# Altium footprint library PCB1.PcbLib: 18 footprints (part 2 of 2)
Each footprint in its own frame and in the unit in brackets; x right, y up, seen from the top. Pads: shape width x height; smd on the part's side, far side on the other; paste and mask are expansions set on the pad; w line width, h text height; cw(c..) or ccw(c..) is an arc to the next point about the centre after c.
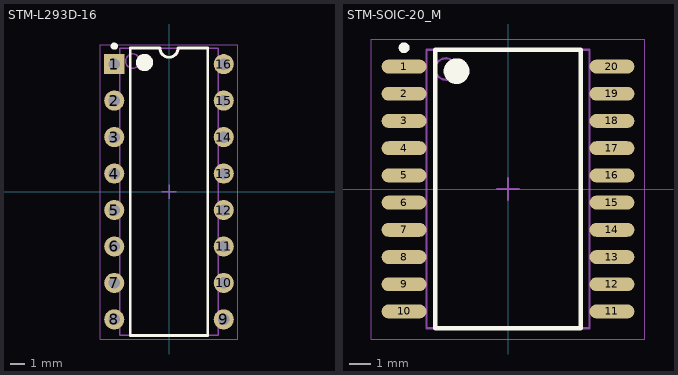
[diagram p1: the footprints below, top view; thin cyan lines are the x and y axes]

## STM-L293D-16 [mm] "DIP, 16-Leads, Body 20x6.85mm, Pitch 2.54mm"
height 5.1
pads (16):
  rect 1.4x1.4 hole 0.8: 1(-3.81,8.89)
  round 1.4 hole 0.8: 2(-3.81,6.35) 3(-3.81,3.81) 4(-3.81,1.27) 5(-3.81,-1.27) 6(-3.81,-3.81) 7(-3.81,-6.35) 8(-3.81,-8.89) 9(3.81,-8.89) 10(3.81,-6.35) 11(3.81,-3.81) 12(3.81,-1.27) 13(3.81,1.27) 14(3.81,3.81) 15(3.81,6.35) 16(3.81,8.89)
Top Overlay:
  circle w0.25: c-3.81,10.14 r0.125
  circle w0.6: c-1.7,9 r0.3
  lines w0.2: -2.7,-10 -2.7,10 -0.635,10 ccw(c0,10) 0.635,10 2.7,10 2.7,-10 -2.7,-10
Top 3D Body:
  circle w0.1: c-2.525,9.1 r0.5
  lines w0.1: -3.425,-10 -3.425,10 3.425,10 3.425,-10 -3.425,-10
Top Courtyard:
  lines w0.05: -4.8,-10.25 -4.8,10.25 4.8,10.25 4.8,-10.25 -4.8,-10.25
  lines w0.1: -0.5,0 0.5,0 ; 0,-0.5 0,0.5
3D body: height 2.69, standoff 0, extent -3.93,8.44 -3.69,9.34
3D body: height 2.93, standoff 2.69, extent -3.93,8.44 -3.425,9.34
3D body: height 0, standoff -1.6, extent -3.93,8.57 -3.69,9.21
3D body: height 2.69, standoff 0, extent -3.93,5.9 -3.69,6.8
3D body: height 2.93, standoff 2.69, extent -3.93,5.9 -3.425,6.8
3D body: height 0, standoff -1.6, extent -3.93,6.03 -3.69,6.67
3D body: height 2.69, standoff 0, extent -3.93,3.36 -3.69,4.26
3D body: height 2.93, standoff 2.69, extent -3.93,3.36 -3.425,4.26
3D body: height 0, standoff -1.6, extent -3.93,3.49 -3.69,4.13
3D body: height 2.69, standoff 0, extent -3.93,0.82 -3.69,1.72
3D body: height 2.93, standoff 2.69, extent -3.93,0.82 -3.425,1.72
3D body: height 0, standoff -1.6, extent -3.93,0.95 -3.69,1.59
3D body: height 2.69, standoff 0, extent -3.93,-1.72 -3.69,-0.82
3D body: height 2.93, standoff 2.69, extent -3.93,-1.72 -3.425,-0.82
3D body: height 0, standoff -1.6, extent -3.93,-1.59 -3.69,-0.95
3D body: height 2.69, standoff 0, extent -3.93,-4.26 -3.69,-3.36
3D body: height 2.93, standoff 2.69, extent -3.93,-4.26 -3.425,-3.36
3D body: height 0, standoff -1.6, extent -3.93,-4.13 -3.69,-3.49
3D body: height 2.69, standoff 0, extent -3.93,-6.8 -3.69,-5.9
3D body: height 2.93, standoff 2.69, extent -3.93,-6.8 -3.425,-5.9
3D body: height 0, standoff -1.6, extent -3.93,-6.67 -3.69,-6.03
3D body: height 2.69, standoff 0, extent -3.93,-9.34 -3.69,-8.44
3D body: height 2.93, standoff 2.69, extent -3.93,-9.34 -3.425,-8.44
3D body: height 0, standoff -1.6, extent -3.93,-9.21 -3.69,-8.57
3D body: height 2.69, standoff 0, extent 3.69,-9.34 3.93,-8.44
3D body: height 2.93, standoff 2.69, extent 3.425,-9.34 3.93,-8.44
3D body: height 0, standoff -1.6, extent 3.69,-9.21 3.93,-8.57
3D body: height 2.69, standoff 0, extent 3.69,-6.8 3.93,-5.9
3D body: height 2.93, standoff 2.69, extent 3.425,-6.8 3.93,-5.9
3D body: height 0, standoff -1.6, extent 3.69,-6.67 3.93,-6.03
3D body: height 2.69, standoff 0, extent 3.69,-4.26 3.93,-3.36
3D body: height 2.93, standoff 2.69, extent 3.425,-4.26 3.93,-3.36
3D body: height 0, standoff -1.6, extent 3.69,-4.13 3.93,-3.49
3D body: height 2.69, standoff 0, extent 3.69,-1.72 3.93,-0.82
3D body: height 2.93, standoff 2.69, extent 3.425,-1.72 3.93,-0.82
3D body: height 0, standoff -1.6, extent 3.69,-1.59 3.93,-0.95
3D body: height 2.69, standoff 0, extent 3.69,0.82 3.93,1.72
3D body: height 2.93, standoff 2.69, extent 3.425,0.82 3.93,1.72
3D body: height 0, standoff -1.6, extent 3.69,0.95 3.93,1.59
3D body: height 2.69, standoff 0, extent 3.69,3.36 3.93,4.26
3D body: height 2.93, standoff 2.69, extent 3.425,3.36 3.93,4.26
3D body: height 0, standoff -1.6, extent 3.69,3.49 3.93,4.13
3D body: height 2.69, standoff 0, extent 3.69,5.9 3.93,6.8
3D body: height 2.93, standoff 2.69, extent 3.425,5.9 3.93,6.8
3D body: height 0, standoff -1.6, extent 3.69,6.03 3.93,6.67
3D body: height 2.69, standoff 0, extent 3.69,8.44 3.93,9.34
3D body: height 2.93, standoff 2.69, extent 3.425,8.44 3.93,9.34
3D body: height 0, standoff -1.6, extent 3.69,8.57 3.93,9.21
3D body: height 5.1, standoff 0.51, extent -3.425,-10 3.425,10

## STM-SOIC-20_M [mm] "SOIC, 20-Leads, Body 13x7.6mm, Pitch 1.27mm, IPC Low Density"
height 2.65
pads (20):
  oval 2.1x0.65 smd: 1(-4.85,5.715) 2(-4.85,4.445) 3(-4.85,3.175) 4(-4.85,1.905) 5(-4.85,0.635) 6(-4.85,-0.635) 7(-4.85,-1.905) 8(-4.85,-3.175) 9(-4.85,-4.445) 10(-4.85,-5.715) 11(4.85,-5.715) 12(4.85,-4.445) 13(4.85,-3.175) 14(4.85,-1.905) 15(4.85,-0.635) 16(4.85,0.635) 17(4.85,1.905) 18(4.85,3.175) 19(4.85,4.445) 20(4.85,5.715)
Top Overlay:
  circle w0.6: c-2.4,5.5 r0.3
  circle w0.25: c-4.85,6.59 r0.125
  lines w0.2: -3.4,-6.5 3.4,-6.5 3.4,6.5 -3.4,6.5 -3.4,-6.5
Top 3D Body:
  circle w0.1: c-2.9,5.6 r0.5
  lines w0.1: -3.8,-6.5 3.8,-6.5 3.8,6.5 -3.8,6.5 -3.8,-6.5
Top Courtyard:
  lines w0.05: -6.375,-7 6.375,-7 6.375,7 -6.375,7 -6.375,-7
  lines w0.1: -0.5,0 0.5,0 ; 0,-0.5 0,0.5
3D body "SOIC127P1030X265-20M.step": height 2.65, standoff 0, extent -5.162,-6.5 5.162,6.5